# Altium footprint library PLA10AS1330R5D2B.PcbLib: 1 footprints
Each footprint in its own frame and in the unit in brackets; x right, y up, seen from the top. Pads: shape width x height; smd on the part's side, far side on the other; paste and mask are expansions set on the pad; w line width, h text height; cw(c..) or ccw(c..) is an arc to the next point about the centre after c.
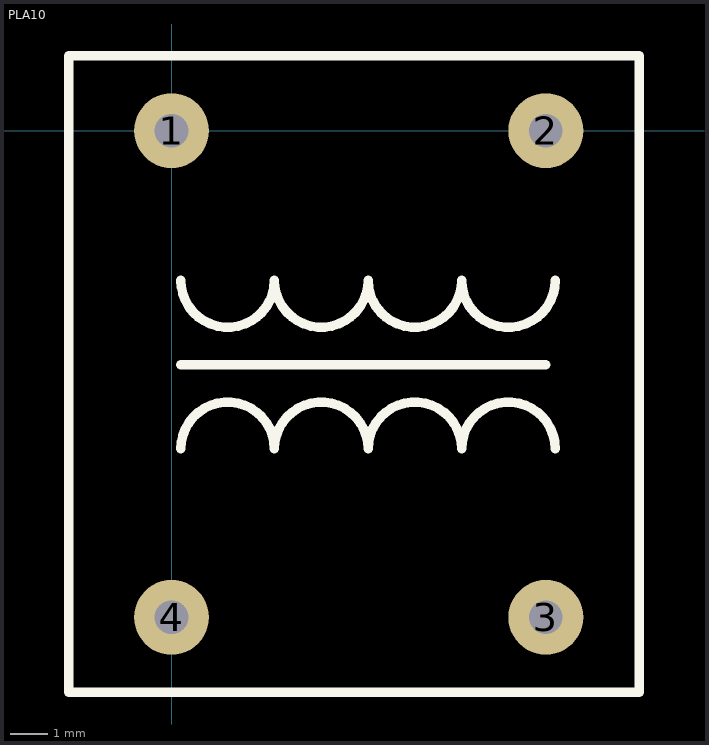
[diagram p0: the footprint, top view; thin cyan lines are the x and y axes]

## PLA10 [mm]
pads (4):
  round 2 hole 0.9: 1(0,0) 2(10,0) 3(10,-13) 4(0,-13)
Top Overlay:
  lines w0.254: 0.25,-8.5 cw(c1.5,-8.5) 2.75,-8.5 cw(c4,-8.5) 5.25,-8.5 cw(c6.5,-8.5) 7.75,-8.5 cw(c9,-8.5) 10.25,-8.5 ; 0.25,-6.25 10,-6.25 ; 0.25,-4 ccw(c1.5,-4) 2.75,-4 ccw(c4,-4) 5.25,-4 ccw(c6.5,-4) 7.75,-4 ccw(c9,-4) 10.25,-4 ; -2.75,-15 12.5,-15 12.5,2 -2.75,2 -2.75,-15
3D body "PLA10-EMI-filter.STEP": height 16.3, standoff -3.3, extent -2.55,-14.935 12.45,1.857